# Altium footprint library AdapterBoardPCBLIB.PcbLib: 1 footprints
Each footprint in its own frame and in the unit in brackets; x right, y up, seen from the top. Pads: shape width x height; smd on the part's side, far side on the other; paste and mask are expansions set on the pad; w line width, h text height; cw(c..) or ccw(c..) is an arc to the next point about the centre after c.
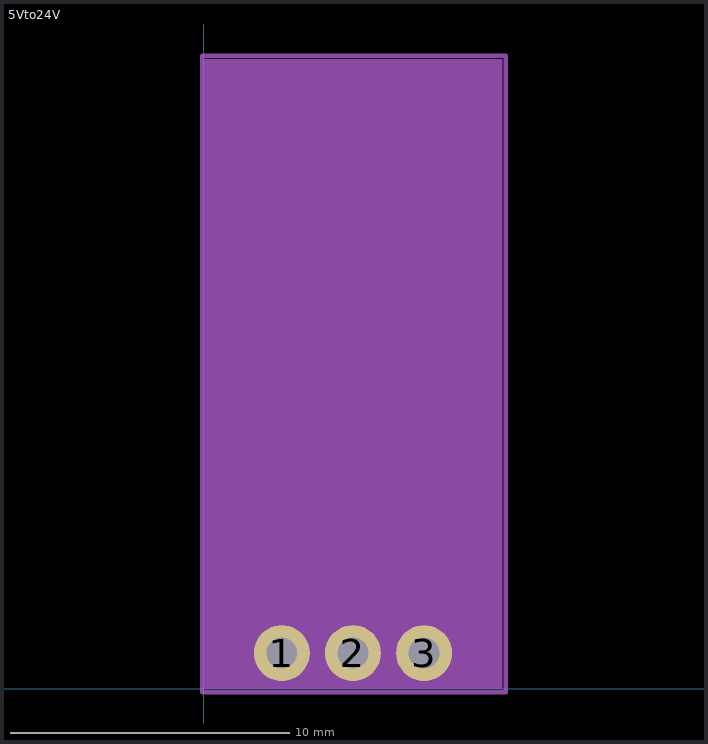
[diagram p0: the footprint, top view; thin cyan lines are the x and y axes]

## 5Vto24V [mm] "5V to 24 V converter"
height 5.842
pads (3):
  round 2 hole 1.1: 1(2.794,1.27) 2(5.334,1.27) 3(7.874,1.27)
Mechanical 15:
  region: 0,0 0,22.479 10.668,22.479 10.668,0
  lines w0.152: -0.051,-0.127 10.795,-0.127 10.795,22.606 -0.051,22.606 -0.051,-0.127
3D body: height 0.25, standoff 0, extent 0.038,-0.013 10.668,22.479